# Altium footprint library package.PcbLib: 3 footprints
Each footprint in its own frame and in the unit in brackets; x right, y up, seen from the top. Pads: shape width x height; smd on the part's side, far side on the other; paste and mask are expansions set on the pad; w line width, h text height; cw(c..) or ccw(c..) is an arc to the next point about the centre after c.
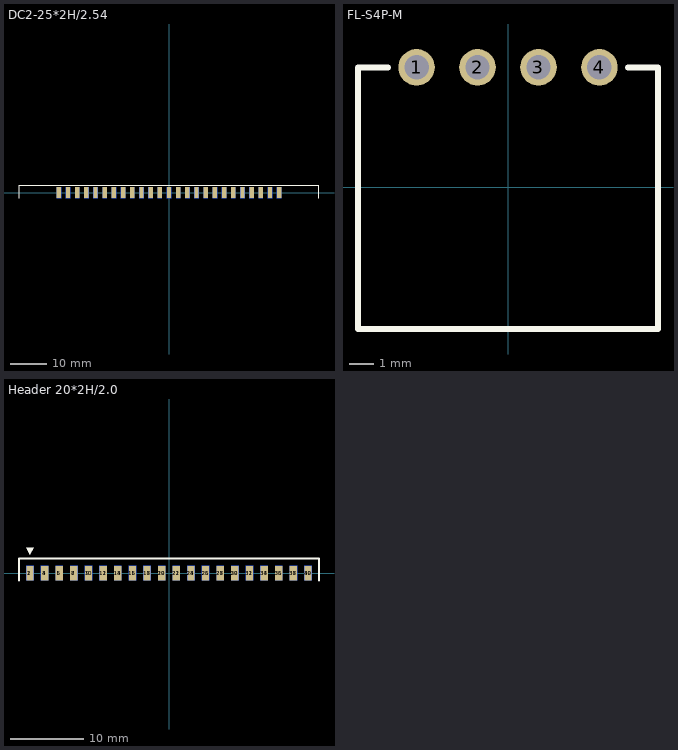
[diagram p0: the footprints below, top view; thin cyan lines are the x and y axes]

## DC2-25*2H/2.54 [mm]
pads (50):
  rect 1.2x3 smd far side: 1(-30.48,0) 3(-27.94,0) 5(-25.4,0) 7(-22.86,0) 9(-20.32,0) 11(-17.78,0) 13(-15.24,0) 15(-12.7,0) 17(-10.16,0) 19(-7.62,0) 21(-5.08,0) 23(-2.54,0) 25(0,0) 27(2.54,0) 29(5.08,0) 31(7.62,0) 33(10.16,0) 35(12.7,0) 37(15.24,0) 39(17.78,0) 41(20.32,0) 43(22.86,0) 45(25.4,0) 47(27.94,0) 49(30.48,0)
  rect 1.2x3 smd: 2(-30.48,0) 4(-27.94,0) 6(-25.4,0) 8(-22.86,0) 10(-20.32,0) 12(-17.78,0) 14(-15.24,0) 16(-12.7,0) 18(-10.16,0) 20(-7.62,0) 22(-5.08,0) 24(-2.54,0) 26(0,0) 28(2.54,0) 30(5.08,0) 32(7.62,0) 34(10.16,0) 36(12.7,0) 38(15.24,0) 40(17.78,0) 42(20.32,0) 44(22.86,0) 46(25.4,0) 48(27.94,0) 50(30.48,0)
Top Overlay:
  lines w0.254: -41.5,-1.5 -41.5,2 41.5,2 41.5,-1.5
Bottom Overlay:
  region: -30.5,2.5 -31,3.5 -30,3.5
  lines w0.254: -41.5,-1.5 -41.5,2 41.5,2 41.5,-1.5

## FL-S4P-M [mil]
height 228.35
pads (4):
  round 60 hole 40: 1(-150,196.85) 2(-50,196.85) 3(50,196.85) 4(150,196.85)
Top Overlay:
  lines w10: -196.85,196.85 -246.06,196.85 -246.06,-232.28 246.06,-232.28 246.06,196.85 196.85,196.85

## Header 20*2H/2.0 [mm]
pads (40):
  rect 1x2 smd: 1(-19,0) 3(-17,0) 5(-15,0) 7(-13,0) 9(-11,0) 11(-9,0) 13(-7,0) 15(-5,0) 17(-3,0) 19(-1,0) 21(1,0) 23(3,0) 25(5,0) 27(7,0) 29(9,0) 31(11,0) 33(13,0) 35(15,0) 37(17,0) 39(19,0)
  rect 1x2 smd far side: 2(-19,0) 4(-17,0) 6(-15,0) 8(-13,0) 10(-11,0) 12(-9,0) 14(-7,0) 16(-5,0) 18(-3,0) 20(-1,0) 22(1,0) 24(3,0) 26(5,0) 28(7,0) 30(9,0) 32(11,0) 34(13,0) 36(15,0) 38(17,0) 40(19,0)
Top Overlay:
  region: -19,2.5 -19.5,3.5 -18.5,3.5
  lines w0.254: -20.5,-1 -20.5,2 0,2 20.5,2 20.5,-1